# Altium schematic symbol library QUTMS_PowerSupplyLibrary.SchLib: 2 symbols
Pins are listed as number, name and electrical type; pins without a type are passive.

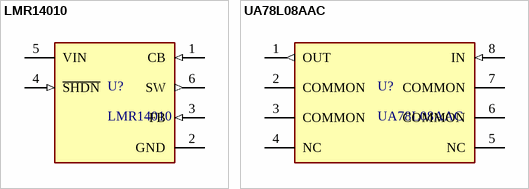
[diagram p0: symbols LMR14010 to UA78L08AAC]

## LMR14010
designator U?
footprint LMR14010
pins: 1 CB (in), 2 GND (power), 3 FB (in), 4 ~{SHDN} (in), 5 VIN (power), 6 SW (out)

## UA78L08AAC
designator U?
footprint SOIC-8
pins: 1 OUT (out), 2 COMMON (power), 3 COMMON (power), 4 NC, 5 NC (power), 6 COMMON (power), 7 COMMON (power), 8 IN (in)